# EAGLE library part MP2456GJ-P (library TSAR_Controller)
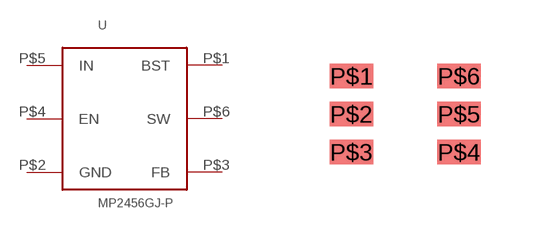
[diagram p2: symbol with the pads of SOT6; footprint SOT6]

Designator prefix -

## MP2456GJ-P  [SOT6]
P$1  BST
P$2  GND
P$3  FB
P$4  EN  in
P$5  IN  pwr
P$6  SW

## Footprint SOT6 (pad centres in mm)
smd 1.092 x 0.61: P$1 -1.346,0.95; P$2 -1.346,0; P$3 -1.346,-0.95; P$4 1.346,-0.95; P$5 1.346,0; P$6 1.346,0.95